# EAGLE library part AD104 (library analog-devices)
ANALOG DEVICES
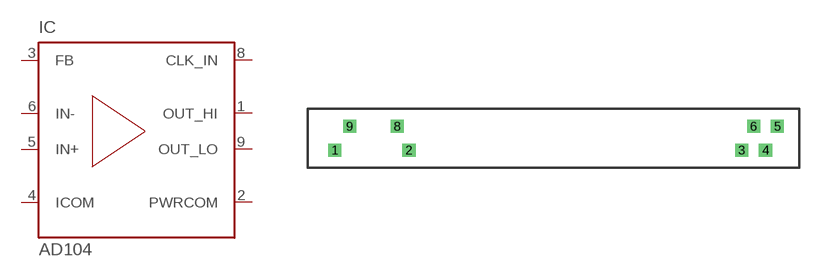
[diagram p0: symbol with the pads of AD104; footprint AD104]

Designator prefix IC

## AD104 (MPN: AD1047; OC_FARNELL: unknown; OC_NEWARK: 27R0347)  [AD104]
1  OUT_HI  out
2  PWRCOM  out
3  FB  in
4  ICOM  pwr
5  IN+  in
6  IN-  in
8  CLK_IN  out
9  OUT_LO  out

## Footprint AD104 (pad centres in mm)
8 lead Package
drill 0.813 pad 1.397 square: 1 -23.368,-1.27; 2 -15.443,-1.27; 3 20.117,-1.27; 4 22.657,-1.27; 5 23.927,1.27; 6 21.387,1.27; 8 -16.713,1.27; 9 -21.793,1.27